# EAGLE library part 5569-22 (library con-molex-5569)
4.20mm Pitch Mini-Fit Jr.™ 22 pin Source: http://www.molex.com/pdm_docs/sd/039307025_sd.pdf
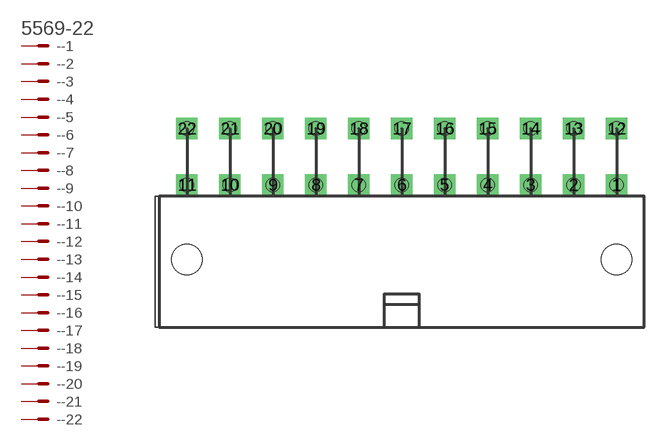
[diagram p3: symbol with the pads of 5569-22; footprint 5569-22]

Designator prefix -; gates -1=MV -2=M -3=M -4=M -5=M -6=M -7=M -8=M -9=M -10=M -11=M -12=M -13=M -14=M -15=M -16=M -17=M -18=M -19=M -20=M -21=M -22=M

## 5569-22  [5569-22]
1  -1:>NAME$
2  -2:>NAME$
3  -3:>NAME$
4  -4:>NAME$
5  -5:>NAME$
6  -6:>NAME$
7  -7:>NAME$
8  -8:>NAME$
9  -9:>NAME$
10  -10:>NAME$
11  -11:>NAME$
12  -12:>NAME$
13  -13:>NAME$
14  -14:>NAME$
15  -15:>NAME$
16  -16:>NAME$
17  -17:>NAME$
18  -18:>NAME$
19  -19:>NAME$
20  -20:>NAME$
21  -21:>NAME$
22  -22:>NAME$

## Footprint 5569-22 (pad centres in mm)
4.20mm Pitch Mini-Fit Jr.™ 22 pin Source: http://www.molex.com/pdm_docs/sd/039307025_sd.pdf
drill 1.4 square: 1 21,-2.75; 2 16.8,-2.75; 3 12.6,-2.75; 4 8.4,-2.75; 5 4.2,-2.75; 6 0,-2.75; 7 -4.2,-2.75; 8 -8.4,-2.75; 9 -12.6,-2.75; 10 -16.8,-2.75; 11 -21,-2.75; 12 21,2.75; 13 16.8,2.75; 14 12.6,2.75; 15 8.4,2.75; 16 4.2,2.75; 17 0,2.75; 18 -4.2,2.75; 19 -8.4,2.75; 20 -12.6,2.75; 21 -16.8,2.75; 22 -21,2.75
hole 3 at -21,-10.05
hole 3 at 21,-10.05
hole 1.3 at 21,-2.75
hole 1.3 at 21,2.75
hole 1.3 at 16.8,-2.75
hole 1.3 at 16.8,2.75
hole 1.3 at 12.6,-2.75
hole 1.3 at 12.6,2.75
hole 1.3 at 8.4,-2.75
hole 1.3 at 8.4,2.75
hole 1.3 at 4.2,-2.75
hole 1.3 at 4.2,2.75
hole 1.3 at 0,-2.75
hole 1.3 at 0,2.75
hole 1.3 at -4.2,-2.75
hole 1.3 at -4.2,2.75
hole 1.3 at -8.4,-2.75
hole 1.3 at -8.4,2.75
hole 1.3 at -12.6,-2.75
hole 1.3 at -12.6,2.75
hole 1.3 at -16.8,-2.75
hole 1.3 at -16.8,2.75
hole 1.3 at -21,-2.75
hole 1.3 at -21,2.75